# Altium schematic symbol library Schlib1.SchLib: 1 symbol
Pins are listed as number, name and electrical type; pins without a type are passive.

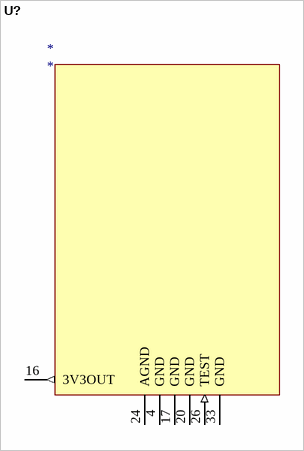
[diagram p0: symbol U?]

## U?
designator *
pins: 4 GND (power), 16 3V3OUT (out), 17 GND (power), 20 GND (power), 24 AGND (power), 26 TEST (in), 33 GND (power)